# Altium footprint library OltestLib_popadjuk.PcbLib: 113 footprints (part 6 of 8)
Each footprint in its own frame and in the unit in brackets; x right, y up, seen from the top. Pads: shape width x height; smd on the part's side, far side on the other; paste and mask are expansions set on the pad; w line width, h text height; cw(c..) or ccw(c..) is an arc to the next point about the centre after c.
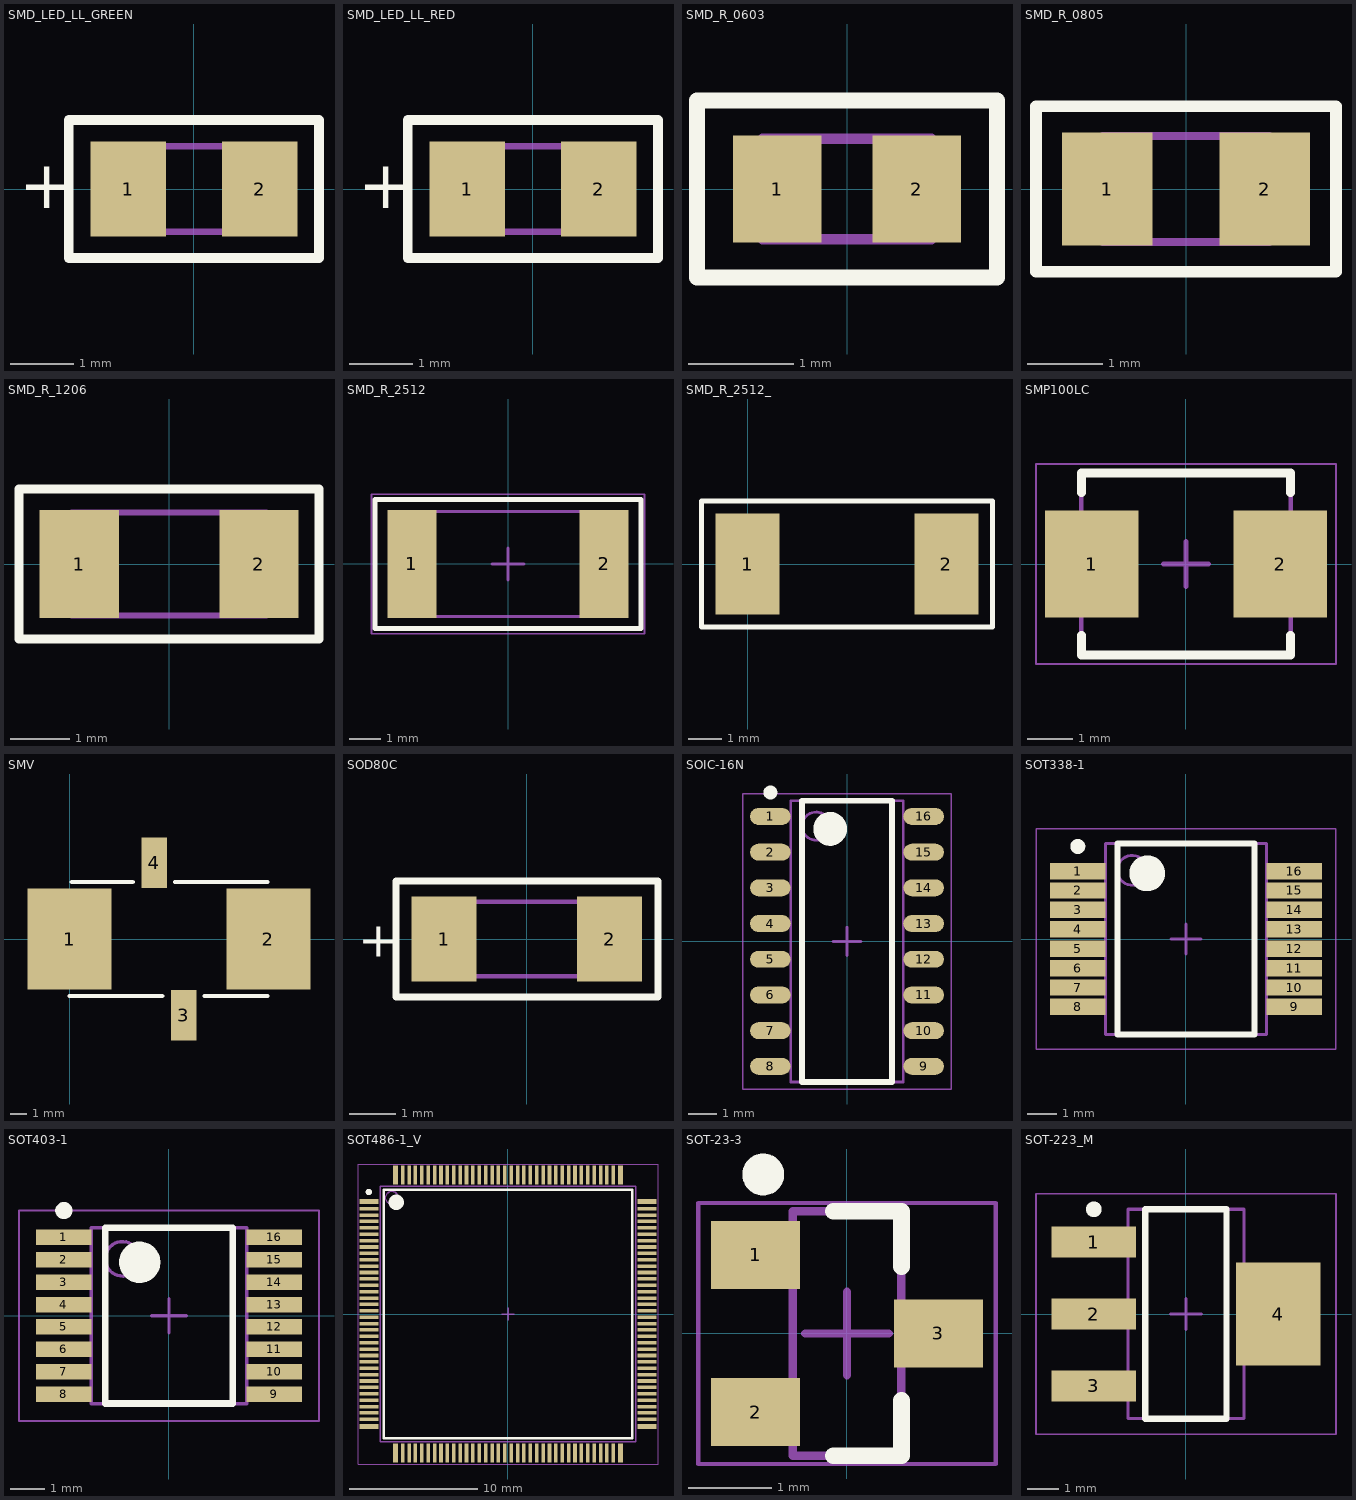
[diagram p5: the footprints below, top view; thin cyan lines are the x and y axes]

## SMD_LED_LL_GREEN [mil] "Chip Diode, 2-Leads, Body 2,00x1,25mm, IPC Low Density"
height 31.5
pads (2):
  rect 47x59 smd: 1(-41,0) 2(41,0)
Top Overlay:
  lines w6: -78,-43 -78,43 78,43 78,-43 -78,-43
  text "+" at -109,-12 h30
Mechanical 13:
  lines w3.94: -41.34,-26.57 -41.34,26.57 41.34,26.57 41.34,-26.57 -41.34,-26.57
3D body: height 31.5, standoff 0, extent -25.59,-26.57 25.59,26.57
3D body: height 31.5, standoff 0, extent -41.34,-26.57 -25.59,26.57
3D body: height 31.5, standoff 0, extent 25.59,-26.57 41.34,26.57

## SMD_LED_LL_RED [mil] "Chip Diode, 2-Leads, Body 2,00x1,25mm, IPC Low Density"
height 31.5
pads (2):
  rect 47x59 smd: 1(-41,0) 2(41,0)
Top Overlay:
  lines w6: -78,-43 -78,43 78,43 78,-43 -78,-43
  text "+" at -109,-12 h30
Mechanical 13:
  lines w3.94: -41.34,-26.57 -41.34,26.57 41.34,26.57 41.34,-26.57 -41.34,-26.57
3D body: height 31.5, standoff 0, extent -25.59,-26.57 25.59,26.57
3D body: height 31.5, standoff 0, extent -41.34,-26.57 -25.59,26.57
3D body: height 31.5, standoff 0, extent 25.59,-26.57 41.34,26.57

## SMD_R_0603 [mil] "Chip Resistor, 2-Leads, Body 1,55x0,85mm, IPC Low Density"
height 17.72
pads (2):
  rect 33x40 smd: 1(-26,0) 2(26,0)
Top Overlay:
  lines w6: -56,-33 56,-33 56,33 -56,33 -56,-33
Mechanical 13:
  lines w3.94: -31.5,-18.7 31.5,-18.7 31.5,18.7 -31.5,18.7 -31.5,-18.7
3D body "RESC1608X05M.step": height 17.72, standoff 0, extent -31.5,-18.7 31.5,18.7

## SMD_R_0805 [mil] "Chip Resistor, 2-Leads, Body 2,05x1,22mm, IPC Low Density"
height 17.72
pads (2):
  rect 47x59 smd: 1(-41,0) 2(41,0)
Top Overlay:
  lines w6: -78,-43 -78,43 78,43 78,-43 -78,-43
Mechanical 13:
  lines w3.94: -43.31,-27.56 -43.31,27.56 43.31,27.56 43.31,-27.56 -43.31,-27.56
3D body "RESC2112X05M.step": height 17.72, standoff 0, extent -43.31,-27.56 43.31,27.56

## SMD_R_1206 [mil] "Chip Resistor, 2-Leads, Body 3,15x1,60mm, IPC Low Density"
height 21.65
pads (2):
  rect 53x72 smd: 1(-60,0) 2(60,0)
Top Overlay:
  lines w6: -100,-50 100,-50 100,50 -100,50 -100,-50
Mechanical 13:
  lines w3.94: -64.96,-34.45 -64.96,34.45 64.96,34.45 64.96,-34.45 -64.96,-34.45
3D body "RESC3116X06M.step": height 21.65, standoff 0, extent -64.96,-34.45 64.96,34.45

## SMD_R_2512 [mm] "Chip Resistor, 2-Leads, Body 6,30x3,15mm, IPC Low Density"
height 0.6
pads (2):
  rect 1.55x3.4 smd: 1(-3.025,0) 2(3.025,0)
Top Overlay:
  lines w0.152: -4.191,-2.032 -4.191,2.032 4.191,2.032 4.191,-2.032 -4.191,-2.032
Mechanical 13:
  lines w0.1: -3.25,-1.65 -3.25,1.65 3.25,1.65 3.25,-1.65 -3.25,-1.65
Mechanical 15:
  lines w0.05: -4.3,-2.2 -4.3,2.2 4.3,2.2 4.3,-2.2 -4.3,-2.2
  lines w0.1: -0.5,0 0.5,0 ; 0,-0.5 0,0.5
3D body "RESC6331X06M.step": height 0.6, standoff 0, extent -3.25,-1.65 3.25,1.65

## SMD_R_2512_ [mil]
pads (2):
  rect 76x120 smd: 1(0,0) 2(236,0)
Top Overlay:
  lines w6: -54.5,-75 -54.5,75 290.5,75 290.5,-75 -54.5,-75

## SMP100LC [mm] "SODFL, 2-Leads, Body 3,63x5,35mm, IPC Low Density"
height 2.5
pads (2):
  rect 2.05x2.35 smd: 1(-2.075,0) 2(2.075,0)
Top Overlay:
  lines w0.2: -2.3,-1.575 -2.3,-2 2.3,-2 2.3,-1.575 ; -2.3,1.575 -2.3,2 2.3,2 2.3,1.575
Mechanical 13:
  lines w0.1: -2.3,-1.975 2.3,-1.975 2.3,1.975 -2.3,1.975 -2.3,-1.975
Mechanical 15:
  lines w0.05: -3.3,-2.2 3.3,-2.2 3.3,2.2 -3.3,2.2 -3.3,-2.2
  lines w0.1: -0.5,0 0.5,0 ; 0,-0.5 0,0.5
3D body "SODFL535X250-2M.step": height 2.5, standoff 0, extent -2.675,-1.975 2.675,1.975

## SMV [mil]
pads (4):
  rect 200x240 smd: 1(0,0) 2(472,0)
  rect 60x120 smd: 3(271,-181) 4(201,181)
Top Overlay:
  lines w10: 0,-135 220,-135 ; 5,135 150,135 ; 250,135 470,135 ; 320,-135 470,-135
3D body: height 133, standoff 0, extent 1,-120 471,120

## SOD80C [mil] "MELF Diode, 2-Leads, Body 3,50x1,53mm, IPC Low Density"
height 62.99
pads (2):
  rect 55x72 smd: 1(-70,0) 2(70,0)
Top Overlay:
  lines w6: -111,-49 -111,49 111,49 111,-49 -111,-49
  text "+" at -143,-15 h30
Mechanical 13:
  lines w3.94: -72.83,-31.5 72.83,-31.5 72.83,31.5 -72.83,31.5 -72.83,-31.5
3D body: height 62.99, standoff 0, extent 59.06,-31.5 72.83,31.48
3D body: height 62.4, standoff 1.77, extent -59.06,-30.32 59.06,30.32
3D body: height 62.42, standoff 1.71, extent 11.81,-30.35 35.43,30.34
3D body: height 62.99, standoff 0, extent -72.83,-31.5 -59.06,31.48

## SOIC-16N [mm] "SOIC, 16-Leads, Body 9,80x3,90mm, Pitch 1,27mm, IPC Medium Density"
height 1.45
pads (16):
  oval 1.45x0.6 smd: 1(-2.725,4.445) 2(-2.725,3.175) 3(-2.725,1.905) 4(-2.725,0.635) 5(-2.725,-0.635) 6(-2.725,-1.905) 7(-2.725,-3.175) 8(-2.725,-4.445) 9(2.725,-4.445) 10(2.725,-3.175) 11(2.725,-1.905) 12(2.725,-0.635) 13(2.725,0.635) 14(2.725,1.905) 15(2.725,3.175) 16(2.725,4.445)
Top Overlay:
  circle w0.6: c-0.6,4 r0.3
  circle w0.25: c-2.725,5.295 r0.125
  lines w0.2: -1.6,-5 1.6,-5 1.6,5 -1.6,5 -1.6,-5
Mechanical 13:
  circle w0.1: c-1.1,4.1 r0.5
  lines w0.1: -2,-5 2,-5 2,5 -2,5 -2,-5
Mechanical 15:
  lines w0.05: -3.7,-5.25 3.7,-5.25 3.7,5.25 -3.7,5.25 -3.7,-5.25
  lines w0.1: -0.5,0 0.5,0 ; 0,-0.5 0,0.5
3D body: height 1.45, standoff 0.1, extent -2,-5 2,5

## SOT338-1 [mm] "SSop16: plastic shrink small outline package; 16 leads; body width 5.3 mm"
height 2
pads (16):
  rect 1.85x0.55 smd: 1(-3.625,2.275) 2(-3.625,1.625) 3(-3.625,0.975) 4(-3.625,0.325) 5(-3.625,-0.325) 6(-3.625,-0.975) 7(-3.625,-1.625) 8(-3.625,-2.275) 9(3.625,-2.275) 10(3.625,-1.625) 11(3.625,-0.975) 12(3.625,-0.325) 13(3.625,0.325) 14(3.625,0.975) 15(3.625,1.625) 16(3.625,2.275)
Top Overlay:
  circle w0.25: c-3.625,3.1 r0.125
  circle w0.6: c-1.3,2.2 r0.3
  lines w0.2: -2.3,-3.2 -2.3,3.2 2.3,3.2 2.3,-3.2 -2.3,-3.2
Mechanical 13:
  circle w0.1: c-1.8,2.3 r0.5
  lines w0.1: -2.7,-3.2 -2.7,3.2 2.7,3.2 2.7,-3.2 -2.7,-3.2
Mechanical 15:
  lines w0.05: -5.025,-3.7 -5.025,3.7 5.025,3.7 5.025,-3.7 -5.025,-3.7
  lines w0.1: -0.5,0 0.5,0 ; 0,-0.5 0,0.5
3D body: height 2, standoff 0.21, extent -2.7,-3.2 2.7,3.2

## SOT403-1 [mm] "SSop16: plastic shrink small outline package; 16 leads; body width 4.4 mm"
height 1.1
pads (16):
  rect 1.6x0.45 smd: 1(-3.05,2.275) 2(-3.05,1.625) 3(-3.05,0.975) 4(-3.05,0.325) 5(-3.05,-0.325) 6(-3.05,-0.975) 7(-3.05,-1.625) 8(-3.05,-2.275) 9(3.05,-2.275) 10(3.05,-1.625) 11(3.05,-0.975) 12(3.05,-0.325) 13(3.05,0.325) 14(3.05,0.975) 15(3.05,1.625) 16(3.05,2.275)
Top Overlay:
  circle w0.6: c-0.85,1.55 r0.3
  circle w0.25: c-3.05,3.05 r0.125
  lines w0.2: -1.85,-2.55 1.85,-2.55 1.85,2.55 -1.85,2.55 -1.85,-2.55
Mechanical 13:
  circle w0.1: c-1.35,1.65 r0.5
  lines w0.1: -2.25,-2.55 2.25,-2.55 2.25,2.55 -2.25,2.55 -2.25,-2.55
Mechanical 15:
  lines w0.05: -4.35,-3.05 4.35,-3.05 4.35,3.05 -4.35,3.05 -4.35,-3.05
  lines w0.1: -0.5,0 0.5,0 ; 0,-0.5 0,0.5
3D body: height 1.1, standoff 0.21, extent -2.25,-2.55 2.25,2.55

## SOT486-1_V [mm] "Thin QFP, 144-Leads, Body 20x20mm, Pitch 0.5mm, NXP Recommended"
height 1.6
pads (144):
  rect 1.5x0.4 smd: 1(-10.9,8.81) 36(-10.9,-8.81) 73(10.9,-8.81) 108(10.9,8.81)
  rect 1.5x0.28 smd: 2(-10.9,8.25) 3(-10.9,7.75) 4(-10.9,7.25) 5(-10.9,6.75) 6(-10.9,6.25) 7(-10.9,5.75) 8(-10.9,5.25) 9(-10.9,4.75) 10(-10.9,4.25) 11(-10.9,3.75) 12(-10.9,3.25) 13(-10.9,2.75) 14(-10.9,2.25) 15(-10.9,1.75) 16(-10.9,1.25) 17(-10.9,0.75) 18(-10.9,0.25) 19(-10.9,-0.25) 20(-10.9,-0.75) 21(-10.9,-1.25) 22(-10.9,-1.75) 23(-10.9,-2.25) 24(-10.9,-2.75) 25(-10.9,-3.25) 26(-10.9,-3.75) 27(-10.9,-4.25) 28(-10.9,-4.75) 29(-10.9,-5.25) 30(-10.9,-5.75) 31(-10.9,-6.25) 32(-10.9,-6.75) 33(-10.9,-7.25) 34(-10.9,-7.75) 35(-10.9,-8.25) 74(10.9,-8.25) 75(10.9,-7.75) 76(10.9,-7.25) 77(10.9,-6.75) 78(10.9,-6.25) 79(10.9,-5.75) 80(10.9,-5.25) 81(10.9,-4.75) 82(10.9,-4.25) 83(10.9,-3.75) 84(10.9,-3.25) 85(10.9,-2.75) 86(10.9,-2.25) 87(10.9,-1.75) 88(10.9,-1.25) 89(10.9,-0.75) 90(10.9,-0.25) 91(10.9,0.25) 92(10.9,0.75) 93(10.9,1.25) 94(10.9,1.75) 95(10.9,2.25) 96(10.9,2.75) 97(10.9,3.25) 98(10.9,3.75) 99(10.9,4.25) 100(10.9,4.75) 101(10.9,5.25) 102(10.9,5.75) 103(10.9,6.25) 104(10.9,6.75) 105(10.9,7.25) 106(10.9,7.75) 107(10.9,8.25)
  rect 0.4x1.5 smd: 37(-8.81,-10.9) 72(8.81,-10.9) 109(8.81,10.9) 144(-8.81,10.9)
  rect 0.28x1.5 smd: 38(-8.25,-10.9) 39(-7.75,-10.9) 40(-7.25,-10.9) 41(-6.75,-10.9) 42(-6.25,-10.9) 43(-5.75,-10.9) 44(-5.25,-10.9) 45(-4.75,-10.9) 46(-4.25,-10.9) 47(-3.75,-10.9) 48(-3.25,-10.9) 49(-2.75,-10.9) 50(-2.25,-10.9) 51(-1.75,-10.9) 52(-1.25,-10.9) 53(-0.75,-10.9) 54(-0.25,-10.9) 55(0.25,-10.9) 56(0.75,-10.9) 57(1.25,-10.9) 58(1.75,-10.9) 59(2.25,-10.9) 60(2.75,-10.9) 61(3.25,-10.9) 62(3.75,-10.9) 63(4.25,-10.9) 64(4.75,-10.9) 65(5.25,-10.9) 66(5.75,-10.9) 67(6.25,-10.9) 68(6.75,-10.9) 69(7.25,-10.9) 70(7.75,-10.9) 71(8.25,-10.9) 110(8.25,10.9) 111(7.75,10.9) 112(7.25,10.9) 113(6.75,10.9) 114(6.25,10.9) 115(5.75,10.9) 116(5.25,10.9) 117(4.75,10.9) 118(4.25,10.9) 119(3.75,10.9) 120(3.25,10.9) 121(2.75,10.9) 122(2.25,10.9) 123(1.75,10.9) 124(1.25,10.9) 125(0.75,10.9) 126(0.25,10.9) 127(-0.25,10.9) 128(-0.75,10.9) 129(-1.25,10.9) 130(-1.75,10.9) 131(-2.25,10.9) 132(-2.75,10.9) 133(-3.25,10.9) 134(-3.75,10.9) 135(-4.25,10.9) 136(-4.75,10.9) 137(-5.25,10.9) 138(-5.75,10.9) 139(-6.25,10.9) 140(-6.75,10.9) 141(-7.25,10.9) 142(-7.75,10.9) 143(-8.25,10.9)
Top Overlay:
  circle w0.25: c-10.9,9.56 r0.125
  circle w0.6: c-8.75,8.75 r0.3
  lines w0.2: -9.75,-9.75 -9.75,9.75 9.75,9.75 9.75,-9.75 -9.75,-9.75
Mechanical 13:
  circle w0.1: c-9.1,9.1 r0.5
  lines w0.1: -10,-10 -10,10 10,10 10,-10 -10,-10
Mechanical 15:
  lines w0.05: -11.75,-11.75 -11.75,11.75 11.75,11.75 11.75,-11.75 -11.75,-11.75
  lines w0.1: -0.5,0 0.5,0 ; 0,-0.5 0,0.5
3D body: height 1.6, standoff 0.05, extent -10,-10 10,10

## SOT-23-3 [mil] "SOT23, 3-Leads, Body 2.92x1.3mm, Pitch 0.95mm"
height 43.7
pads (3):
  rect 42x32 smd: 1(-43,37) 2(-43,-37) 3(43,0)
Top Overlay:
  circle w9.84: c-39.37,74.8 r4.92
  lines w7.87: -6.5,-57.48 25.59,-57.48 25.59,-31.5 ; -6.5,57.48 25.59,57.48 25.59,31.5
Mechanical 13:
  lines w3.94: -25.59,-57.48 -25.59,57.48 25.59,57.48 25.59,-57.48 -25.59,-57.48
Mechanical 15:
  lines w1.97: -70,-61.42 -70,61.42 70,61.42 70,-61.42 -70,-61.42
  lines w3.94: -19.69,0 19.68,0 ; 0,-19.68 0,19.69
3D body: height 43.7, standoff 0.39, extent -25.59,-57.48 25.59,57.48

## SOT-223_M [mm] "SOT223, 4-Leads, Body 6.5x3.5mm, Pitch 2.3mm, Lead Span 7mm, IPC Low Density"
height 1.8
pads (4):
  rect 2.7x1 smd: 1(-2.95,2.3) 2(-2.95,0) 3(-2.95,-2.3)
  rect 2.7x3.3 smd: 4(2.95,0)
Top Overlay:
  circle w0.25: c-2.95,3.35 r0.125
  lines w0.2: -1.3,-3.35 1.3,-3.35 1.3,3.35 -1.3,3.35 -1.3,-3.35
Mechanical 13:
  lines w0.1: -1.85,-3.35 1.85,-3.35 1.85,3.35 -1.85,3.35 -1.85,-3.35
Mechanical 15:
  lines w0.05: -4.8,-3.85 4.8,-3.85 4.8,3.85 -4.8,3.85 -4.8,-3.85
  lines w0.1: -0.5,0 0.5,0 ; 0,-0.5 0,0.5
3D body: height 1.8, standoff 0.02, extent -1.85,-3.35 1.85,3.35